# Altium footprint library IC_SMD_BGA.PCBLIB: 109 footprints (part 2 of 14)
Each footprint in its own frame and in the unit in brackets; x right, y up, seen from the top. Pads: shape width x height; smd on the part's side, far side on the other; paste and mask are expansions set on the pad; w line width, h text height; cw(c..) or ccw(c..) is an arc to the next point about the centre after c.
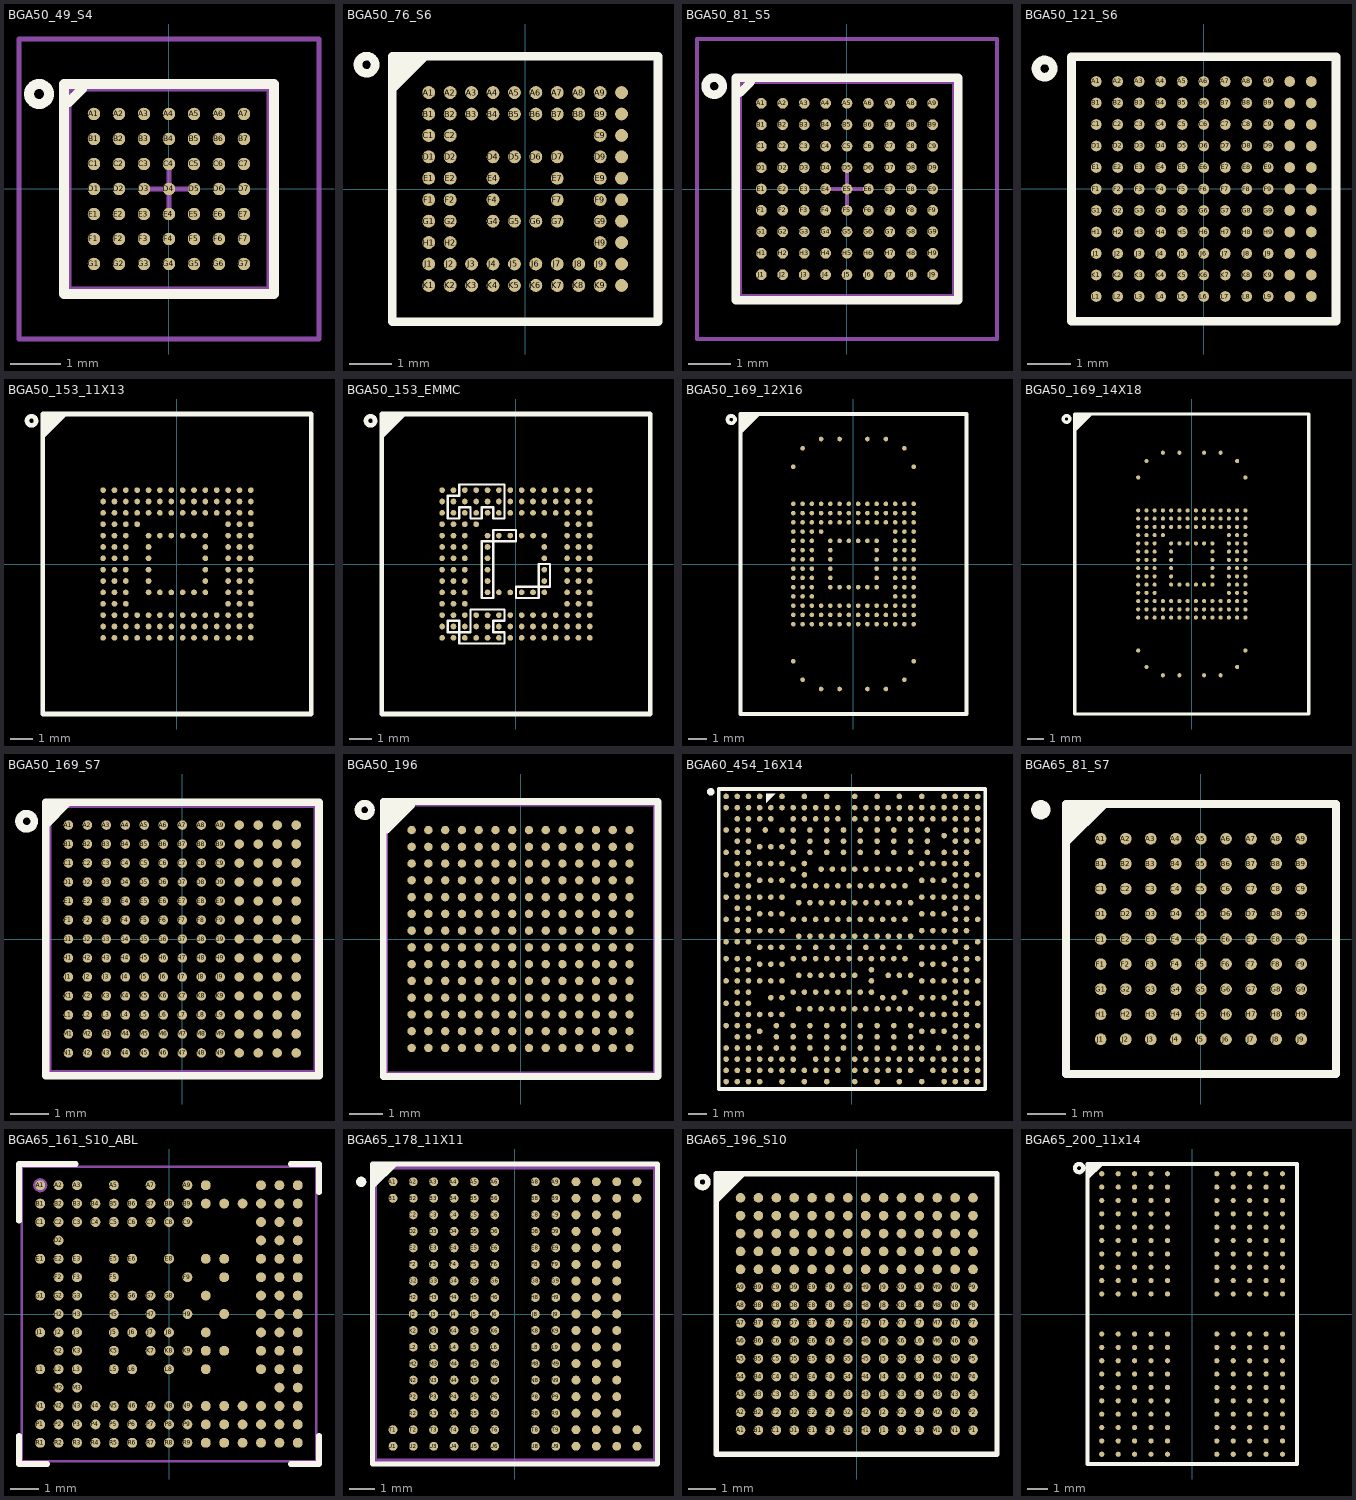
[diagram p1: the footprints below, top view; thin cyan lines are the x and y axes]

## BGA50_49_S4 [mm]
pads (49):
  round 0.25 smd mask+0.05: A1(-1.5,1.5) A2(-1,1.5) A3(-0.5,1.5) A4(0,1.5) A5(0.5,1.5) A6(1,1.5) A7(1.5,1.5) B1(-1.5,1) B2(-1,1) B3(-0.5,1) B4(0,1) B5(0.5,1) B6(1,1) B7(1.5,1) C1(-1.5,0.5) C2(-1,0.5) C3(-0.5,0.5) C4(0,0.5) C5(0.5,0.5) C6(1,0.5) C7(1.5,0.5) D1(-1.5,0) D2(-1,0) D3(-0.5,0) D4(0,0) D5(0.5,0) D6(1,0) D7(1.5,0) E1(-1.5,-0.5) E2(-1,-0.5) E3(-0.5,-0.5) E4(0,-0.5) E5(0.5,-0.5) E6(1,-0.5) E7(1.5,-0.5) F1(-1.5,-1) F2(-1,-1) F3(-0.5,-1) F4(0,-1) F5(0.5,-1) F6(1,-1) F7(1.5,-1) G1(-1.5,-1.5) G2(-1,-1.5) G3(-0.5,-1.5) G4(0,-1.5) G5(0.5,-1.5) G6(1,-1.5) G7(1.5,-1.5)
TopOverlay:
  circle w0.2: c-2.6,1.9 r0.2
  lines w0.2: -2,1.742 -1.742,2 ; -2.1,-2.1 -2.1,2.1 2.1,2.1 2.1,-2.1 -2.1,-2.1
Mechanical13:
  lines w0.1: -2,-2 -2,2 2,2 2,-2 -2,-2
Mechanical15:
  lines w0.1: -0.5,0 0.5,0 ; 0,-0.5 0,0.5 ; -3,-3 -3,3 3,3 3,-3 -3,-3

## BGA50_76_S6 [mm] "CSPBGA-76, BC-76-2, 6x6, 0.5mm ptich"
pads (76):
  round 0.3 smd paste+0 mask+0.05: A1(-2.25,2.25) A2(-1.75,2.25) A3(-1.25,2.25) A4(-0.75,2.25) A5(-0.25,2.25) A6(0.25,2.25) A7(0.75,2.25) A8(1.25,2.25) A9(1.75,2.25) A10(2.25,2.25) B1(-2.25,1.75) B2(-1.75,1.75) B3(-1.25,1.75) B4(-0.75,1.75) B5(-0.25,1.75) B6(0.25,1.75) B7(0.75,1.75) B8(1.25,1.75) B9(1.75,1.75) B10(2.25,1.75) C1(-2.25,1.25) C2(-1.75,1.25) C9(1.75,1.25) C10(2.25,1.25) D1(-2.25,0.75) D2(-1.75,0.75) D4(-0.75,0.75) D5(-0.25,0.75) D6(0.25,0.75) D7(0.75,0.75) D9(1.75,0.75) D10(2.25,0.75) E1(-2.25,0.25) E2(-1.75,0.25) E4(-0.75,0.25) E7(0.75,0.25) E9(1.75,0.25) E10(2.25,0.25) F1(-2.25,-0.25) F2(-1.75,-0.25) F4(-0.75,-0.25) F7(0.75,-0.25) F9(1.75,-0.25) F10(2.25,-0.25) G1(-2.25,-0.75) G2(-1.75,-0.75) G4(-0.75,-0.75) G5(-0.25,-0.75) G6(0.25,-0.75) G7(0.75,-0.75) G9(1.75,-0.75) G10(2.25,-0.75) H1(-2.25,-1.25) H2(-1.75,-1.25) H9(1.75,-1.25) H10(2.25,-1.25) J1(-2.25,-1.75) J2(-1.75,-1.75) J3(-1.25,-1.75) J4(-0.75,-1.75) J5(-0.25,-1.75) J6(0.25,-1.75) J7(0.75,-1.75) J8(1.25,-1.75) J9(1.75,-1.75) J10(2.25,-1.75) K1(-2.25,-2.25) K2(-1.75,-2.25) K3(-1.25,-2.25) K4(-0.75,-2.25) K5(-0.25,-2.25) K6(0.25,-2.25) K7(0.75,-2.25) K8(1.25,-2.25) K9(1.75,-2.25) K10(2.25,-2.25)
TopOverlay:
  circle w0.2: c-3.7,2.9 r0.2
  region: -3.1,3.1 -3.1,2.2 -2.2,3.1
  lines w0.2: -3.1,-3.1 -3.1,3.1 3.1,3.1 3.1,-2.8 3.1,-3 3.1,-3.1 -3.1,-3.1
3D body "BC_76_2_ADI.step": height 1.4, standoff 0, extent -3.048,-3.048 3.048,3.048

## BGA50_81_S5 [mm]
pads (81):
  round 0.25 smd mask+0.05: A1(-2,2) A2(-1.5,2) A3(-1,2) A4(-0.5,2) A5(0,2) A6(0.5,2) A7(1,2) A8(1.5,2) A9(2,2) B1(-2,1.5) B2(-1.5,1.5) B3(-1,1.5) B4(-0.5,1.5) B5(0,1.5) B6(0.5,1.5) B7(1,1.5) B8(1.5,1.5) B9(2,1.5) C1(-2,1) C2(-1.5,1) C3(-1,1) C4(-0.5,1) C5(0,1) C6(0.5,1) C7(1,1) C8(1.5,1) C9(2,1) D1(-2,0.5) D2(-1.5,0.5) D3(-1,0.5) D4(-0.5,0.5) D5(0,0.5) D6(0.5,0.5) D7(1,0.5) D8(1.5,0.5) D9(2,0.5) E1(-2,0) E2(-1.5,0) E3(-1,0) E4(-0.5,0) E5(0,0) E6(0.5,0) E7(1,0) E8(1.5,0) E9(2,0) F1(-2,-0.5) F2(-1.5,-0.5) F3(-1,-0.5) F4(-0.5,-0.5) F5(0,-0.5) F6(0.5,-0.5) F7(1,-0.5) F8(1.5,-0.5) F9(2,-0.5) G1(-2,-1) G2(-1.5,-1) G3(-1,-1) G4(-0.5,-1) G5(0,-1) G6(0.5,-1) G7(1,-1) G8(1.5,-1) G9(2,-1) H1(-2,-1.5) H2(-1.5,-1.5) H3(-1,-1.5) H4(-0.5,-1.5) H5(0,-1.5) H6(0.5,-1.5) H7(1,-1.5) H8(1.5,-1.5) H9(2,-1.5) J1(-2,-2) J2(-1.5,-2) J3(-1,-2) J4(-0.5,-2) J5(0,-2) J6(0.5,-2) J7(1,-2) J8(1.5,-2) J9(2,-2)
TopOverlay:
  circle w0.2: c-3.1,2.4 r0.2
  lines w0.2: -2.5,2.242 -2.242,2.5 ; -2.6,-2.6 -2.6,2.6 2.6,2.6 2.6,-2.6 -2.6,-2.6
Mechanical13:
  lines w0.1: -2.5,-2.5 -2.5,2.5 2.5,2.5 2.5,-2.5 -2.5,-2.5
Mechanical15:
  lines w0.1: -0.5,0 0.5,0 ; 0,-0.5 0,0.5 ; -3.5,-3.5 -3.5,3.5 3.5,3.5 3.5,-3.5 -3.5,-3.5

## BGA50_121_S6 [mm]
pads (121):
  round 0.25 smd mask+0.05: A1(-2.5,2.5) A2(-2,2.5) A3(-1.5,2.5) A4(-1,2.5) A5(-0.5,2.5) A6(0,2.5) A7(0.5,2.5) A8(1,2.5) A9(1.5,2.5) A10(2,2.5) A11(2.5,2.5) B1(-2.5,2) B2(-2,2) B3(-1.5,2) B4(-1,2) B5(-0.5,2) B6(0,2) B7(0.5,2) B8(1,2) B9(1.5,2) B10(2,2) B11(2.5,2) C1(-2.5,1.5) C2(-2,1.5) C3(-1.5,1.5) C4(-1,1.5) C5(-0.5,1.5) C6(0,1.5) C7(0.5,1.5) C8(1,1.5) C9(1.5,1.5) C10(2,1.5) C11(2.5,1.5) D1(-2.5,1) D2(-2,1) D3(-1.5,1) D4(-1,1) D5(-0.5,1) D6(0,1) D7(0.5,1) D8(1,1) D9(1.5,1) D10(2,1) D11(2.5,1) E1(-2.5,0.5) E2(-2,0.5) E3(-1.5,0.5) E4(-1,0.5) E5(-0.5,0.5) E6(0,0.5) E7(0.5,0.5) E8(1,0.5) E9(1.5,0.5) E10(2,0.5) E11(2.5,0.5) F1(-2.5,0) F2(-2,0) F3(-1.5,0) F4(-1,0) F5(-0.5,0) F6(0,0) F7(0.5,0) F8(1,0) F9(1.5,0) F10(2,0) F11(2.5,0) G1(-2.5,-0.5) G2(-2,-0.5) G3(-1.5,-0.5) G4(-1,-0.5) G5(-0.5,-0.5) G6(0,-0.5) G7(0.5,-0.5) G8(1,-0.5) G9(1.5,-0.5) G10(2,-0.5) G11(2.5,-0.5) H1(-2.5,-1) H2(-2,-1) H3(-1.5,-1) H4(-1,-1) H5(-0.5,-1) H6(0,-1) H7(0.5,-1) H8(1,-1) H9(1.5,-1) H10(2,-1) H11(2.5,-1) J1(-2.5,-1.5) J2(-2,-1.5) J3(-1.5,-1.5) J4(-1,-1.5) J5(-0.5,-1.5) J6(0,-1.5) J7(0.5,-1.5) J8(1,-1.5) J9(1.5,-1.5) J10(2,-1.5) J11(2.5,-1.5) K1(-2.5,-2) K2(-2,-2) K3(-1.5,-2) K4(-1,-2) K5(-0.5,-2) K6(0,-2) K7(0.5,-2) K8(1,-2) K9(1.5,-2) K10(2,-2) K11(2.5,-2) L1(-2.5,-2.5) L2(-2,-2.5) L3(-1.5,-2.5) L4(-1,-2.5) L5(-0.5,-2.5) L6(0,-2.5) L7(0.5,-2.5) L8(1,-2.5) L9(1.5,-2.5) L10(2,-2.5) L11(2.5,-2.5)
TopOverlay:
  circle w0.2: c-3.7,2.8 r0.2
  lines w0.2: -3.075,-3.075 -3.075,3.075 3.075,3.075 3.075,-3.075 -3.075,-3.075

## BGA50_153_11X13 [mm] "BGA 153ball, pitch:0.5mm, 11.5x13mm"
pads (153):
  round 0.25 smd mask+0.05: A1(-3.25,3.25) A2(-2.75,3.25) A3(-2.25,3.25) A4(-1.75,3.25) A5(-1.25,3.25) A6(-0.75,3.25) A7(-0.25,3.25) A8(0.25,3.25) A9(0.75,3.25) A10(1.25,3.25) A11(1.75,3.25) A12(2.25,3.25) A13(2.75,3.25) A14(3.25,3.25) B1(-3.25,2.75) B2(-2.75,2.75) B3(-2.25,2.75) B4(-1.75,2.75) B5(-1.25,2.75) B6(-0.75,2.75) B7(-0.25,2.75) B8(0.25,2.75) B9(0.75,2.75) B10(1.25,2.75) B11(1.75,2.75) B12(2.25,2.75) B13(2.75,2.75) B14(3.25,2.75) C1(-3.25,2.25) C2(-2.75,2.25) C3(-2.25,2.25) C4(-1.75,2.25) C5(-1.25,2.25) C6(-0.75,2.25) C7(-0.25,2.25) C8(0.25,2.25) C9(0.75,2.25) C10(1.25,2.25) C11(1.75,2.25) C12(2.25,2.25) C13(2.75,2.25) C14(3.25,2.25) D1(-3.25,1.75) D2(-2.75,1.75) D3(-2.25,1.75) D4(-1.75,1.75) D12(2.25,1.75) D13(2.75,1.75) D14(3.25,1.75) E1(-3.25,1.25) E2(-2.75,1.25) E3(-2.25,1.25) E5(-1.25,1.25) E6(-0.75,1.25) E7(-0.25,1.25) E8(0.25,1.25) E9(0.75,1.25) E10(1.25,1.25) E12(2.25,1.25) E13(2.75,1.25) E14(3.25,1.25) F1(-3.25,0.75) F2(-2.75,0.75) F3(-2.25,0.75) F5(-1.25,0.75) F10(1.25,0.75) F12(2.25,0.75) F13(2.75,0.75) F14(3.25,0.75) G1(-3.25,0.25) G2(-2.75,0.25) G3(-2.25,0.25) G5(-1.25,0.25) G10(1.25,0.25) G12(2.25,0.25) G13(2.75,0.25) G14(3.25,0.25) H1(-3.25,-0.25) H2(-2.75,-0.25) H3(-2.25,-0.25) H5(-1.25,-0.25) H10(1.25,-0.25) H12(2.25,-0.25) H13(2.75,-0.25) H14(3.25,-0.25) J1(-3.25,-0.75) J2(-2.75,-0.75) J3(-2.25,-0.75) J5(-1.25,-0.75) J10(1.25,-0.75) J12(2.25,-0.75) J13(2.75,-0.75) J14(3.25,-0.75) K1(-3.25,-1.25) K2(-2.75,-1.25) K3(-2.25,-1.25) K5(-1.25,-1.25) K6(-0.75,-1.25) K7(-0.25,-1.25) K8(0.25,-1.25) K9(0.75,-1.25) K10(1.25,-1.25) K12(2.25,-1.25) K13(2.75,-1.25) K14(3.25,-1.25) L1(-3.25,-1.75) L2(-2.75,-1.75) L3(-2.25,-1.75) L12(2.25,-1.75) L13(2.75,-1.75) L14(3.25,-1.75) M1(-3.25,-2.25) M2(-2.75,-2.25) M3(-2.25,-2.25) M4(-1.75,-2.25) M5(-1.25,-2.25) M6(-0.75,-2.25) M7(-0.25,-2.25) M8(0.25,-2.25) M9(0.75,-2.25) M10(1.25,-2.25) M11(1.75,-2.25) M12(2.25,-2.25) M13(2.75,-2.25) M14(3.25,-2.25) N1(-3.25,-2.75) N2(-2.75,-2.75) N3(-2.25,-2.75) N4(-1.75,-2.75) N5(-1.25,-2.75) N6(-0.75,-2.75) N7(-0.25,-2.75) N8(0.25,-2.75) N9(0.75,-2.75) N10(1.25,-2.75) N11(1.75,-2.75) N12(2.25,-2.75) N13(2.75,-2.75) N14(3.25,-2.75) P1(-3.25,-3.25) P2(-2.75,-3.25) P3(-2.25,-3.25) P4(-1.75,-3.25) P5(-1.25,-3.25) P6(-0.75,-3.25) P7(-0.25,-3.25) P8(0.25,-3.25) P9(0.75,-3.25) P10(1.25,-3.25) P11(1.75,-3.25) P12(2.25,-3.25) P13(2.75,-3.25) P14(3.25,-3.25)
TopOverlay:
  circle w0.2: c-6.4,6.3 r0.2
  region: -5.9,5.5 -4.8,6.6 -5.9,6.6
  lines w0.2: -5.9,-6.6 -5.9,6.6 5.9,6.6 5.9,-6.6 -5.9,-6.6

## BGA50_153_EMMC [mm] "BGA 153ball, pitch:0.5mm, 11.5x13mm"
pads (153):
  round 0.25 smd mask+0.05: A1(-3.25,3.25) A2(-2.75,3.25) A3(-2.25,3.25) A4(-1.75,3.25) A5(-1.25,3.25) A6(-0.75,3.25) A7(-0.25,3.25) A8(0.25,3.25) B1(-3.25,2.75) B2(-2.75,2.75) B3(-2.25,2.75) B4(-1.75,2.75) B5(-1.25,2.75) B6(-0.75,2.75) B7(-0.25,2.75) C1(-3.25,2.25) C2(-2.75,2.25) C3(-2.25,2.25) C4(-1.75,2.25) C5(-1.25,2.25) C6(-0.75,2.25) D1(-3.25,1.75) D2(-2.75,1.75) D3(-2.25,1.75) D4(-1.75,1.75) E1(-3.25,1.25) E2(-2.75,1.25) E3(-2.25,1.25) E6(-0.75,1.25) E7(-0.25,1.25) F1(-3.25,0.75) F2(-2.75,0.75) F5(-1.25,0.75) G5(-1.25,0.25) H5(-1.25,-0.25) H10(1.25,-0.25) J5(-1.25,-0.75) J10(1.25,-0.75) K5(-1.25,-1.25) K8(0.25,-1.25) K9(0.75,-1.25) M4(-1.75,-2.25) M5(-1.25,-2.25) M6(-0.75,-2.25) N2(-2.75,-2.75) N4(-1.75,-2.75) N5(-1.25,-2.75) P2(-2.75,-3.25) P3(-2.25,-3.25) P4(-1.75,-3.25) P5(-1.25,-3.25) P6(-0.75,-3.25) ""(-3.25,-3.25) ""(-3.25,-2.75) ""(-3.25,-2.25) ""(-3.25,-1.75) ""(-3.25,-1.25) ""(-3.25,-0.75) ""(-3.25,-0.25) ""(-3.25,0.25) ""(-2.75,-2.25) ""(-2.75,-1.75) ""(-2.75,-1.25) ""(-2.75,-0.75) ""(-2.75,-0.25) ""(-2.75,0.25) ""(-2.25,-2.75) ""(-2.25,-2.25) ""(-2.25,-1.75) ""(-2.25,-1.25) ""(-2.25,-0.75) ""(-2.25,-0.25) ""(-2.25,0.25) ""(-2.25,0.75) ""(-1.25,1.25) ""(-0.75,-2.75) ""(-0.75,-1.25) ""(-0.25,-3.25) ""(-0.25,-2.75) ""(-0.25,-2.25) ""(-0.25,-1.25) ""(-0.25,2.25) ""(0.25,-3.25) ""(0.25,-2.75) ""(0.25,-2.25) ""(0.25,1.25) ""(0.25,2.25) ""(0.25,2.75) ""(0.75,-3.25) ""(0.75,-2.75) ""(0.75,-2.25) ""(0.75,1.25) ""(0.75,2.25) ""(0.75,2.75) ""(0.75,3.25) ""(1.25,-3.25) ""(1.25,-2.75) ""(1.25,-2.25) ""(1.25,-1.25) ""(1.25,0.25) ""(1.25,0.75) ""(1.25,1.25) ""(1.25,2.25) ""(1.25,2.75) ""(1.25,3.25) ""(1.75,-3.25) ""(1.75,-2.75) ""(1.75,-2.25) ""(1.75,2.25) ""(1.75,2.75) ""(1.75,3.25) ""(2.25,-3.25) ""(2.25,-2.75) ""(2.25,-2.25) ""(2.25,-1.75) ""(2.25,-1.25) ""(2.25,-0.75) ""(2.25,-0.25) ""(2.25,0.25) ""(2.25,0.75) ""(2.25,1.25) ""(2.25,1.75) ""(2.25,2.25) ""(2.25,2.75) ""(2.25,3.25) ""(2.75,-3.25) ""(2.75,-2.75) ""(2.75,-2.25) ""(2.75,-1.75) ""(2.75,-1.25) ""(2.75,-0.75) ""(2.75,-0.25) ""(2.75,0.25) ""(2.75,0.75) ""(2.75,1.25) ""(2.75,1.75) ""(2.75,2.25) ""(2.75,2.75) ""(2.75,3.25) ""(3.25,-3.25) ""(3.25,-2.75) ""(3.25,-2.25) ""(3.25,-1.75) ""(3.25,-1.25) ""(3.25,-0.75) ""(3.25,-0.25) ""(3.25,0.25) ""(3.25,0.75) ""(3.25,1.25) ""(3.25,1.75) ""(3.25,2.25) ""(3.25,2.75) ""(3.25,3.25)
TopOverlay:
  circle w0.2: c-6.4,6.3 r0.2
  region: -5.9,5.5 -4.8,6.6 -5.9,6.6
  lines w0.1: -2.5,-3 -2,-3 -2,-2 -0.5,-2 -0.5,-2.5 -1,-2.5 -1,-3 -0.5,-3 -0.5,-3.5 -2.5,-3.5 -2.5,-3 ; -2.5,-3 -2.5,-2.5 -3,-2.5 -3,-3 -2.5,-3 ; -1,1 0,1 0,1.5 -1,1.5 -1,1 ; -1,1 -1.5,1 -1.5,-1.5 -1,-1.5 -1,1 ; 1,-1 1.5,-1 1.5,0 1,0 1,-1 ; 1,-1 0,-1 0,-1.5 1,-1.5 1,-1 ; -3,2 -3,3 -2.5,3 -2.5,3.5 -0.5,3.5 -0.5,2 -1,2 -1,2.5 -1.5,2.5 -1.5,2 -2,2 -2,2.5 -2.5,2.5 -2.5,2 -3,2
  lines w0.2: -5.9,-6.6 -5.9,6.6 5.9,6.6 5.9,-6.6 -5.9,-6.6
3D body: height 0.8, standoff 0, extent -5.8,-6.5 5.8,6.5

## BGA50_169_12X16 [mm] "BGA 153ball, pitch:0.5mm, 12x16mm"
pads (169):
  round 0.25 smd mask+0.05: A4(-1.75,6.75) A6(-0.75,6.75) A9(0.75,6.75) A11(1.75,6.75) AA1(-3.25,-3.25) AA2(-2.75,-3.25) AA3(-2.25,-3.25) AA4(-1.75,-3.25) AA5(-1.25,-3.25) AA6(-0.75,-3.25) AA7(-0.25,-3.25) AA8(0.25,-3.25) AA9(0.75,-3.25) AA10(1.25,-3.25) AA11(1.75,-3.25) AA12(2.25,-3.25) AA13(2.75,-3.25) AA14(3.25,-3.25) AE1(-3.25,-5.25) AE14(3.25,-5.25) AG2(-2.75,-6.25) AG13(2.75,-6.25) AH4(-1.75,-6.75) AH6(-0.75,-6.75) AH9(0.75,-6.75) AH11(1.75,-6.75) B2(-2.75,6.25) B13(2.75,6.25) D1(-3.25,5.25) D14(3.25,5.25) H1(-3.25,3.25) H2(-2.75,3.25) H3(-2.25,3.25) H4(-1.75,3.25) H5(-1.25,3.25) H6(-0.75,3.25) H7(-0.25,3.25) H8(0.25,3.25) H9(0.75,3.25) H10(1.25,3.25) H11(1.75,3.25) H12(2.25,3.25) H13(2.75,3.25) H14(3.25,3.25) J1(-3.25,2.75) J2(-2.75,2.75) J3(-2.25,2.75) J4(-1.75,2.75) J5(-1.25,2.75) J6(-0.75,2.75) J7(-0.25,2.75) J8(0.25,2.75) J9(0.75,2.75) J10(1.25,2.75) J11(1.75,2.75) J12(2.25,2.75) J13(2.75,2.75) J14(3.25,2.75) K1(-3.25,2.25) K2(-2.75,2.25) K3(-2.25,2.25) K4(-1.75,2.25) K5(-1.25,2.25) K6(-0.75,2.25) K7(-0.25,2.25) K8(0.25,2.25) K9(0.75,2.25) K10(1.25,2.25) K11(1.75,2.25) K12(2.25,2.25) K13(2.75,2.25) K14(3.25,2.25) L1(-3.25,1.75) L2(-2.75,1.75) L3(-2.25,1.75) L4(-1.75,1.75) L12(2.25,1.75) L13(2.75,1.75) L14(3.25,1.75) M1(-3.25,1.25) M2(-2.75,1.25) M3(-2.25,1.25) M5(-1.25,1.25) M6(-0.75,1.25) M7(-0.25,1.25) M8(0.25,1.25) M9(0.75,1.25) M10(1.25,1.25) M12(2.25,1.25) M13(2.75,1.25) M14(3.25,1.25) N1(-3.25,0.75) N2(-2.75,0.75) N3(-2.25,0.75) N5(-1.25,0.75) N10(1.25,0.75) N12(2.25,0.75) N13(2.75,0.75) N14(3.25,0.75) P1(-3.25,0.25) P2(-2.75,0.25) P3(-2.25,0.25) P5(-1.25,0.25) P10(1.25,0.25) P12(2.25,0.25) P13(2.75,0.25) P14(3.25,0.25) R1(-3.25,-0.25) R2(-2.75,-0.25) R3(-2.25,-0.25) R5(-1.25,-0.25) R10(1.25,-0.25) R12(2.25,-0.25) R13(2.75,-0.25) R14(3.25,-0.25) T1(-3.25,-0.75) T2(-2.75,-0.75) T3(-2.25,-0.75) T5(-1.25,-0.75) T10(1.25,-0.75) T12(2.25,-0.75) T13(2.75,-0.75) T14(3.25,-0.75) U1(-3.25,-1.25) U2(-2.75,-1.25) U3(-2.25,-1.25) U5(-1.25,-1.25) U6(-0.75,-1.25) U7(-0.25,-1.25) U8(0.25,-1.25) U9(0.75,-1.25) U10(1.25,-1.25) U12(2.25,-1.25) U13(2.75,-1.25) U14(3.25,-1.25) V1(-3.25,-1.75) V2(-2.75,-1.75) V3(-2.25,-1.75) V12(2.25,-1.75) V13(2.75,-1.75) V14(3.25,-1.75) W1(-3.25,-2.25) W2(-2.75,-2.25) W3(-2.25,-2.25) W4(-1.75,-2.25) W5(-1.25,-2.25) W6(-0.75,-2.25) W7(-0.25,-2.25) W8(0.25,-2.25) W9(0.75,-2.25) W10(1.25,-2.25) W11(1.75,-2.25) W12(2.25,-2.25) W13(2.75,-2.25) W14(3.25,-2.25) Y1(-3.25,-2.75) Y2(-2.75,-2.75) Y3(-2.25,-2.75) Y4(-1.75,-2.75) Y5(-1.25,-2.75) Y6(-0.75,-2.75) Y7(-0.25,-2.75) Y8(0.25,-2.75) Y9(0.75,-2.75) Y10(1.25,-2.75) Y11(1.75,-2.75) Y12(2.25,-2.75) Y13(2.75,-2.75) Y14(3.25,-2.75)
TopOverlay:
  circle w0.2: c-6.6,7.8 r0.2
  region: -6.1,7 -5,8.1 -6.1,8.1
  lines w0.2: -6.1,-8.1 6.1,-8.1 6.1,8.1 -6.1,8.1 -6.1,-8.1
3D body: height 0.8, standoff 0, extent -6,-8 6,8

## BGA50_169_14X18 [mm] "BGA 153ball, pitch:0.5mm, 14x18mm"
pads (169):
  round 0.25 smd mask+0.05: A4(-1.75,6.75) A6(-0.75,6.75) A9(0.75,6.75) A11(1.75,6.75) AA1(-3.25,-3.25) AA2(-2.75,-3.25) AA3(-2.25,-3.25) AA4(-1.75,-3.25) AA5(-1.25,-3.25) AA6(-0.75,-3.25) AA7(-0.25,-3.25) AA8(0.25,-3.25) AA9(0.75,-3.25) AA10(1.25,-3.25) AA11(1.75,-3.25) AA12(2.25,-3.25) AA13(2.75,-3.25) AA14(3.25,-3.25) AE1(-3.25,-5.25) AE14(3.25,-5.25) AG2(-2.75,-6.25) AG13(2.75,-6.25) AH4(-1.75,-6.75) AH6(-0.75,-6.75) AH9(0.75,-6.75) AH11(1.75,-6.75) B2(-2.75,6.25) B13(2.75,6.25) D1(-3.25,5.25) D14(3.25,5.25) H1(-3.25,3.25) H2(-2.75,3.25) H3(-2.25,3.25) H4(-1.75,3.25) H5(-1.25,3.25) H6(-0.75,3.25) H7(-0.25,3.25) H8(0.25,3.25) H9(0.75,3.25) H10(1.25,3.25) H11(1.75,3.25) H12(2.25,3.25) H13(2.75,3.25) H14(3.25,3.25) J1(-3.25,2.75) J2(-2.75,2.75) J3(-2.25,2.75) J4(-1.75,2.75) J5(-1.25,2.75) J6(-0.75,2.75) J7(-0.25,2.75) J8(0.25,2.75) J9(0.75,2.75) J10(1.25,2.75) J11(1.75,2.75) J12(2.25,2.75) J13(2.75,2.75) J14(3.25,2.75) K1(-3.25,2.25) K2(-2.75,2.25) K3(-2.25,2.25) K4(-1.75,2.25) K5(-1.25,2.25) K6(-0.75,2.25) K7(-0.25,2.25) K8(0.25,2.25) K9(0.75,2.25) K10(1.25,2.25) K11(1.75,2.25) K12(2.25,2.25) K13(2.75,2.25) K14(3.25,2.25) L1(-3.25,1.75) L2(-2.75,1.75) L3(-2.25,1.75) L4(-1.75,1.75) L12(2.25,1.75) L13(2.75,1.75) L14(3.25,1.75) M1(-3.25,1.25) M2(-2.75,1.25) M3(-2.25,1.25) M5(-1.25,1.25) M6(-0.75,1.25) M7(-0.25,1.25) M8(0.25,1.25) M9(0.75,1.25) M10(1.25,1.25) M12(2.25,1.25) M13(2.75,1.25) M14(3.25,1.25) N1(-3.25,0.75) N2(-2.75,0.75) N3(-2.25,0.75) N5(-1.25,0.75) N10(1.25,0.75) N12(2.25,0.75) N13(2.75,0.75) N14(3.25,0.75) P1(-3.25,0.25) P2(-2.75,0.25) P3(-2.25,0.25) P5(-1.25,0.25) P10(1.25,0.25) P12(2.25,0.25) P13(2.75,0.25) P14(3.25,0.25) R1(-3.25,-0.25) R2(-2.75,-0.25) R3(-2.25,-0.25) R5(-1.25,-0.25) R10(1.25,-0.25) R12(2.25,-0.25) R13(2.75,-0.25) R14(3.25,-0.25) T1(-3.25,-0.75) T2(-2.75,-0.75) T3(-2.25,-0.75) T5(-1.25,-0.75) T10(1.25,-0.75) T12(2.25,-0.75) T13(2.75,-0.75) T14(3.25,-0.75) U1(-3.25,-1.25) U2(-2.75,-1.25) U3(-2.25,-1.25) U5(-1.25,-1.25) U6(-0.75,-1.25) U7(-0.25,-1.25) U8(0.25,-1.25) U9(0.75,-1.25) U10(1.25,-1.25) U12(2.25,-1.25) U13(2.75,-1.25) U14(3.25,-1.25) V1(-3.25,-1.75) V2(-2.75,-1.75) V3(-2.25,-1.75) V12(2.25,-1.75) V13(2.75,-1.75) V14(3.25,-1.75) W1(-3.25,-2.25) W2(-2.75,-2.25) W3(-2.25,-2.25) W4(-1.75,-2.25) W5(-1.25,-2.25) W6(-0.75,-2.25) W7(-0.25,-2.25) W8(0.25,-2.25) W9(0.75,-2.25) W10(1.25,-2.25) W11(1.75,-2.25) W12(2.25,-2.25) W13(2.75,-2.25) W14(3.25,-2.25) Y1(-3.25,-2.75) Y2(-2.75,-2.75) Y3(-2.25,-2.75) Y4(-1.75,-2.75) Y5(-1.25,-2.75) Y6(-0.75,-2.75) Y7(-0.25,-2.75) Y8(0.25,-2.75) Y9(0.75,-2.75) Y10(1.25,-2.75) Y11(1.75,-2.75) Y12(2.25,-2.75) Y13(2.75,-2.75) Y14(3.25,-2.75)
TopOverlay:
  circle w0.2: c-7.6,8.8 r0.2
  region: -7.1,8 -6,9.1 -7.1,9.1
  lines w0.2: -7.1,-9.1 -7.1,9.1 7.1,9.1 7.1,-9.1 -7.1,-9.1
3D body: height 0.8, standoff 0, extent -7,-9 7,9

## BGA50_169_S7 [mm] "BGA; 169 Balls; Body 7 x 7 mm; Pitch 0.5mm"
height 1
pads (169):
  round 0.25 smd mask+0.05: A1(-3,3) A2(-2.5,3) A3(-2,3) A4(-1.5,3) A5(-1,3) A6(-0.5,3) A7(0,3) A8(0.5,3) A9(1,3) A10(1.5,3) A11(2,3) A12(2.5,3) A13(3,3) B1(-3,2.5) B2(-2.5,2.5) B3(-2,2.5) B4(-1.5,2.5) B5(-1,2.5) B6(-0.5,2.5) B7(0,2.5) B8(0.5,2.5) B9(1,2.5) B10(1.5,2.5) B11(2,2.5) B12(2.5,2.5) B13(3,2.5) C1(-3,2) C2(-2.5,2) C3(-2,2) C4(-1.5,2) C5(-1,2) C6(-0.5,2) C7(0,2) C8(0.5,2) C9(1,2) C10(1.5,2) C11(2,2) C12(2.5,2) C13(3,2) D1(-3,1.5) D2(-2.5,1.5) D3(-2,1.5) D4(-1.5,1.5) D5(-1,1.5) D6(-0.5,1.5) D7(0,1.5) D8(0.5,1.5) D9(1,1.5) D10(1.5,1.5) D11(2,1.5) D12(2.5,1.5) D13(3,1.5) E1(-3,1) E2(-2.5,1) E3(-2,1) E4(-1.5,1) E5(-1,1) E6(-0.5,1) E7(0,1) E8(0.5,1) E9(1,1) E10(1.5,1) E11(2,1) E12(2.5,1) E13(3,1) F1(-3,0.5) F2(-2.5,0.5) F3(-2,0.5) F4(-1.5,0.5) F5(-1,0.5) F6(-0.5,0.5) F7(0,0.5) F8(0.5,0.5) F9(1,0.5) F10(1.5,0.5) F11(2,0.5) F12(2.5,0.5) F13(3,0.5) G1(-3,0) G2(-2.5,0) G3(-2,0) G4(-1.5,0) G5(-1,0) G6(-0.5,0) G7(0,0) G8(0.5,0) G9(1,0) G10(1.5,0) G11(2,0) G12(2.5,0) G13(3,0) H1(-3,-0.5) H2(-2.5,-0.5) H3(-2,-0.5) H4(-1.5,-0.5) H5(-1,-0.5) H6(-0.5,-0.5) H7(0,-0.5) H8(0.5,-0.5) H9(1,-0.5) H10(1.5,-0.5) H11(2,-0.5) H12(2.5,-0.5) H13(3,-0.5) J1(-3,-1) J2(-2.5,-1) J3(-2,-1) J4(-1.5,-1) J5(-1,-1) J6(-0.5,-1) J7(0,-1) J8(0.5,-1) J9(1,-1) J10(1.5,-1) J11(2,-1) J12(2.5,-1) J13(3,-1) K1(-3,-1.5) K2(-2.5,-1.5) K3(-2,-1.5) K4(-1.5,-1.5) K5(-1,-1.5) K6(-0.5,-1.5) K7(0,-1.5) K8(0.5,-1.5) K9(1,-1.5) K10(1.5,-1.5) K11(2,-1.5) K12(2.5,-1.5) K13(3,-1.5) L1(-3,-2) L2(-2.5,-2) L3(-2,-2) L4(-1.5,-2) L5(-1,-2) L6(-0.5,-2) L7(0,-2) L8(0.5,-2) L9(1,-2) L10(1.5,-2) L11(2,-2) L12(2.5,-2) L13(3,-2) M1(-3,-2.5) M2(-2.5,-2.5) M3(-2,-2.5) M4(-1.5,-2.5) M5(-1,-2.5) M6(-0.5,-2.5) M7(0,-2.5) M8(0.5,-2.5) M9(1,-2.5) M10(1.5,-2.5) M11(2,-2.5) M12(2.5,-2.5) M13(3,-2.5) N1(-3,-3) N2(-2.5,-3) N3(-2,-3) N4(-1.5,-3) N5(-1,-3) N6(-0.5,-3) N7(0,-3) N8(0.5,-3) N9(1,-3) N10(1.5,-3) N11(2,-3) N12(2.5,-3) N13(3,-3)
TopOverlay:
  circle w0.2: c-4.1,3.1 r0.2
  region: -3,3.6 -3.6,3 -3.6,3.6
  lines w0.2: -3.6,3 -3,3.6 ; -3.6,-3.6 -3.6,3.6 3.6,3.6 3.6,-3.6 -3.6,-3.6
Mechanical13:
  lines w0.1: -3.5,-3.5 -3.5,3.5 3.5,3.5 3.5,-3.5 -3.5,-3.5
3D body: height 1, standoff 0.15, extent -3.5,-3.5 3.5,3.5

## BGA50_196 [mm] "BGA, CPGA196, 8x8mm, Pitch 0.50mm"
height 1
pads (196):
  round 0.25 smd mask+0.05: A1(-3.25,3.25) A2(-2.75,3.25) A3(-2.25,3.25) A4(-1.75,3.25) A5(-1.25,3.25) A6(-0.75,3.25) A7(-0.25,3.25) A8(0.25,3.25) A9(0.75,3.25) A10(1.25,3.25) A11(1.75,3.25) A12(2.25,3.25) A13(2.75,3.25) A14(3.25,3.25) B1(-3.25,2.75) B2(-2.75,2.75) B3(-2.25,2.75) B4(-1.75,2.75) B5(-1.25,2.75) B6(-0.75,2.75) B7(-0.25,2.75) B8(0.25,2.75) B9(0.75,2.75) B10(1.25,2.75) B11(1.75,2.75) B12(2.25,2.75) B13(2.75,2.75) B14(3.25,2.75) C1(-3.25,2.25) C2(-2.75,2.25) C3(-2.25,2.25) C4(-1.75,2.25) C5(-1.25,2.25) C6(-0.75,2.25) C7(-0.25,2.25) C8(0.25,2.25) C9(0.75,2.25) C10(1.25,2.25) C11(1.75,2.25) C12(2.25,2.25) C13(2.75,2.25) C14(3.25,2.25) D1(-3.25,1.75) D2(-2.75,1.75) D3(-2.25,1.75) D4(-1.75,1.75) D5(-1.25,1.75) D6(-0.75,1.75) D7(-0.25,1.75) D8(0.25,1.75) D9(0.75,1.75) D10(1.25,1.75) D11(1.75,1.75) D12(2.25,1.75) D13(2.75,1.75) D14(3.25,1.75) E1(-3.25,1.25) E2(-2.75,1.25) E3(-2.25,1.25) E4(-1.75,1.25) E5(-1.25,1.25) E6(-0.75,1.25) E7(-0.25,1.25) E8(0.25,1.25) E9(0.75,1.25) E10(1.25,1.25) E11(1.75,1.25) E12(2.25,1.25) E13(2.75,1.25) E14(3.25,1.25) F1(-3.25,0.75) F2(-2.75,0.75) F3(-2.25,0.75) F4(-1.75,0.75) F5(-1.25,0.75) F6(-0.75,0.75) F7(-0.25,0.75) F8(0.25,0.75) F9(0.75,0.75) F10(1.25,0.75) F11(1.75,0.75) F12(2.25,0.75) F13(2.75,0.75) F14(3.25,0.75) G1(-3.25,0.25) G2(-2.75,0.25) G3(-2.25,0.25) G4(-1.75,0.25) G5(-1.25,0.25) G6(-0.75,0.25) G7(-0.25,0.25) G8(0.25,0.25) G9(0.75,0.25) G10(1.25,0.25) G11(1.75,0.25) G12(2.25,0.25) G13(2.75,0.25) G14(3.25,0.25) H1(-3.25,-0.25) H2(-2.75,-0.25) H3(-2.25,-0.25) H4(-1.75,-0.25) H5(-1.25,-0.25) H6(-0.75,-0.25) H7(-0.25,-0.25) H8(0.25,-0.25) H9(0.75,-0.25) H10(1.25,-0.25) H11(1.75,-0.25) H12(2.25,-0.25) H13(2.75,-0.25) H14(3.25,-0.25) J1(-3.25,-0.75) J2(-2.75,-0.75) J3(-2.25,-0.75) J4(-1.75,-0.75) J5(-1.25,-0.75) J6(-0.75,-0.75) J7(-0.25,-0.75) J8(0.25,-0.75) J9(0.75,-0.75) J10(1.25,-0.75) J11(1.75,-0.75) J12(2.25,-0.75) J13(2.75,-0.75) J14(3.25,-0.75) K1(-3.25,-1.25) K2(-2.75,-1.25) K3(-2.25,-1.25) K4(-1.75,-1.25) K5(-1.25,-1.25) K6(-0.75,-1.25) K7(-0.25,-1.25) K8(0.25,-1.25) K9(0.75,-1.25) K10(1.25,-1.25) K11(1.75,-1.25) K12(2.25,-1.25) K13(2.75,-1.25) K14(3.25,-1.25) L1(-3.25,-1.75) L2(-2.75,-1.75) L3(-2.25,-1.75) L4(-1.75,-1.75) L5(-1.25,-1.75) L6(-0.75,-1.75) L7(-0.25,-1.75) L8(0.25,-1.75) L9(0.75,-1.75) L10(1.25,-1.75) L11(1.75,-1.75) L12(2.25,-1.75) L13(2.75,-1.75) L14(3.25,-1.75) M1(-3.25,-2.25) M2(-2.75,-2.25) M3(-2.25,-2.25) M4(-1.75,-2.25) M5(-1.25,-2.25) M6(-0.75,-2.25) M7(-0.25,-2.25) M8(0.25,-2.25) M9(0.75,-2.25) M10(1.25,-2.25) M11(1.75,-2.25) M12(2.25,-2.25) M13(2.75,-2.25) M14(3.25,-2.25) N1(-3.25,-2.75) N2(-2.75,-2.75) N3(-2.25,-2.75) N4(-1.75,-2.75) N5(-1.25,-2.75) N6(-0.75,-2.75) N7(-0.25,-2.75) N8(0.25,-2.75) N9(0.75,-2.75) N10(1.25,-2.75) N11(1.75,-2.75) N12(2.25,-2.75) N13(2.75,-2.75) N14(3.25,-2.75) P1(-3.25,-3.25) P2(-2.75,-3.25) P3(-2.25,-3.25) P4(-1.75,-3.25) P5(-1.25,-3.25) P6(-0.75,-3.25) P7(-0.25,-3.25) P8(0.25,-3.25) P9(0.75,-3.25) P10(1.25,-3.25) P11(1.75,-3.25) P12(2.25,-3.25) P13(2.75,-3.25) P14(3.25,-3.25)
TopOverlay:
  circle w0.2: c-4.65,3.85 r0.2
  region: -3.242,4 -4,3.242 -4,4
  lines w0.2: -4,3.242 -3.242,4 ; -4.1,-4.1 4.1,-4.1 4.1,4.1 -4.1,4.1 -4.1,-4.1
Mechanical13:
  lines w0.1: -4,-4 4,-4 4,4 -4,4 -4,-4
3D body "BGA50_196.step": height 1, standoff 0, extent -4,-4 4,4

## BGA60_454_16X14 [mm] "FCBGA, 52x46 ball matrix, 14.3x16.1mm, 0.6mm pitch staggered"
height 1.1
pads (454):
  round 0.3 smd mask+0.05: A1(-6.75,7.65) A3(-6.15,7.65) A5(-5.55,7.65) A7(-4.95,7.65) A11(-3.75,7.65) A15(-2.55,7.65) A19(-1.35,7.65) A24(0.15,7.65) A28(1.35,7.65) A32(2.55,7.65) A36(3.75,7.65) A40(4.95,7.65) A42(5.55,7.65) A44(6.15,7.65) A46(6.75,7.65) AA3(-6.15,1.65) AA5(-5.55,1.65) AA42(5.55,1.65) AA44(6.15,1.65) AB7(-4.95,1.35) AB9(-4.35,1.35) AB11(-3.75,1.35) AB36(3.75,1.35) AB38(4.35,1.35) AB40(4.95,1.35) AC1(-6.75,1.05) AC3(-6.15,1.05) AC5(-5.55,1.05) AC13(-3.15,1.05) AC15(-2.55,1.05) AC17(-1.95,1.05) AC19(-1.35,1.05) AC21(-0.75,1.05) AC23(-0.15,1.05) AC25(0.45,1.05) AC27(1.05,1.05) AC29(1.65,1.05) AC31(2.25,1.05) AC33(2.85,1.05) AC42(5.55,1.05) AC44(6.15,1.05) AC46(6.75,1.05) AE3(-6.15,0.45) AE5(-5.55,0.45) AE7(-4.95,0.45) AE9(-4.35,0.45) AE11(-3.75,0.45) AE36(3.75,0.45) AE38(4.35,0.45) AE40(4.95,0.45) AE42(5.55,0.45) AE44(6.15,0.45) AF14(-2.85,0.15) AF16(-2.25,0.15) AF18(-1.65,0.15) AF20(-1.05,0.15) AF22(-0.45,0.15) AF24(0.15,0.15) AF26(0.75,0.15) AF28(1.35,0.15) AF30(1.95,0.15) AF32(2.55,0.15) AF34(3.15,0.15) AG1(-6.75,-0.15) AG3(-6.15,-0.15) AG5(-5.55,-0.15) AG42(5.55,-0.15) AG46(6.75,-0.15) AH7(-4.95,-0.45) AH9(-4.35,-0.45) AH11(-3.75,-0.45) AH14(-2.85,-0.45) AH17(-1.95,-0.45) AH20(-1.05,-0.45) AH23(-0.15,-0.45) AH26(0.75,-0.45) AH29(1.65,-0.45) AH32(2.55,-0.45) AH36(3.75,-0.45) AH38(4.35,-0.45) AH40(4.95,-0.45) AH44(6.15,-0.45) AK1(-6.75,-1.05) AK3(-6.15,-1.05) AK5(-5.55,-1.05) AK13(-3.15,-1.05) AK15(-2.55,-1.05) AK17(-1.95,-1.05) AK19(-1.35,-1.05) AK21(-0.75,-1.05) AK23(-0.15,-1.05) AK25(0.45,-1.05) AK27(1.05,-1.05) AK29(1.65,-1.05) AK31(2.25,-1.05) AK33(2.85,-1.05) AK42(5.55,-1.05) AK44(6.15,-1.05) AK46(6.75,-1.05) AL7(-4.95,-1.35) AL9(-4.35,-1.35) AL11(-3.75,-1.35) AL36(3.75,-1.35) AL38(4.35,-1.35) AL40(4.95,-1.35) AM3(-6.15,-1.65) AM5(-5.55,-1.65) AM27(1.05,-1.65) AM42(5.55,-1.65) AM44(6.15,-1.65) AN14(-2.85,-1.95) AN16(-2.25,-1.95) AN18(-1.65,-1.95) AN20(-1.05,-1.95) AN22(-0.45,-1.95) AN24(0.15,-1.95) AN30(1.95,-1.95) AN32(2.55,-1.95) AN34(3.15,-1.95) AP1(-6.75,-2.25) AP3(-6.15,-2.25) AP5(-5.55,-2.25) AP7(-4.95,-2.25) AP9(-4.35,-2.25) AP11(-3.75,-2.25) AP27(1.05,-2.25) AP36(3.75,-2.25) AP38(4.35,-2.25) AP40(4.95,-2.25) AP42(5.55,-2.25) AP44(6.15,-2.25) AP46(6.75,-2.25) AT3(-6.15,-2.85) AT5(-5.55,-2.85) AT13(-3.15,-2.85) AT15(-2.55,-2.85) AT17(-1.95,-2.85) AT19(-1.35,-2.85) AT21(-0.75,-2.85) AT23(-0.15,-2.85) AT25(0.45,-2.85) AT27(1.05,-2.85) AT33(2.85,-2.85) AT42(5.55,-2.85) AT44(6.15,-2.85) AU9(-4.35,-3.15) AU11(-3.75,-3.15) AU29(1.65,-3.15) AU31(2.25,-3.15) AU36(3.75,-3.15) AU38(4.35,-3.15) AU40(4.95,-3.15) AV1(-6.75,-3.45) AV3(-6.15,-3.45) AV5(-5.55,-3.45) AV42(5.55,-3.45) AV44(6.15,-3.45) AV46(6.75,-3.45) AW14(-2.85,-3.75) AW16(-2.25,-3.75) AW18(-1.65,-3.75) AW20(-1.05,-3.75) AW22(-0.45,-3.75) AW24(0.15,-3.75) AW26(0.75,-3.75) AW28(1.35,-3.75) AW30(1.95,-3.75) AW32(2.55,-3.75) AW34(3.15,-3.75) AY3(-6.15,-4.05) AY5(-5.55,-4.05) AY7(-4.95,-4.05) AY9(-4.35,-4.05) AY11(-3.75,-4.05) AY36(3.75,-4.05) AY38(4.35,-4.05) AY40(4.95,-4.05) AY42(5.55,-4.05) AY44(6.15,-4.05) BB1(-6.75,-4.65) BB3(-6.15,-4.65) BB5(-5.55,-4.65) BB10(-4.05,-4.65) BB13(-3.15,-4.65) BB16(-2.25,-4.65) BB19(-1.35,-4.65) BB22(-0.45,-4.65) BB25(0.45,-4.65) BB28(1.35,-4.65) BB31(2.25,-4.65) BB34(3.15,-4.65) BB42(5.55,-4.65) BB44(6.15,-4.65) BB46(6.75,-4.65) BC7(-4.95,-4.95) BC36(3.75,-4.95) BC38(4.35,-4.95) BC40(4.95,-4.95) BD3(-6.15,-5.25) BD5(-5.55,-5.25) BD10(-4.05,-5.25) BD13(-3.15,-5.25) BD16(-2.25,-5.25) BD19(-1.35,-5.25) BD22(-0.45,-5.25) BD25(0.45,-5.25) BD28(1.35,-5.25) BD31(2.25,-5.25) BD34(3.15,-5.25) BD42(5.55,-5.25) BD44(6.15,-5.25) BF1(-6.75,-5.85) BF3(-6.15,-5.85) BF5(-5.55,-5.85) BF7(-4.95,-5.85) BF10(-4.05,-5.85) BF13(-3.15,-5.85) BF16(-2.25,-5.85) BF19(-1.35,-5.85) BF22(-0.45,-5.85) BF25(0.45,-5.85) BF28(1.35,-5.85) BF31(2.25,-5.85) BF34(3.15,-5.85) BF36(3.75,-5.85) BF39(4.65,-5.85) BF42(5.55,-5.85) BF44(6.15,-5.85) BF46(6.75,-5.85) BH1(-6.75,-6.45) BH3(-6.15,-6.45) BH5(-5.55,-6.45) BH7(-4.95,-6.45) BH9(-4.35,-6.45) BH11(-3.75,-6.45) BH13(-3.15,-6.45) BH17(-1.95,-6.45) BH19(-1.35,-6.45) BH21(-0.75,-6.45) BH24(0.15,-6.45) BH26(0.75,-6.45) BH28(1.35,-6.45) BH30(1.95,-6.45) BH32(2.55,-6.45) BH34(3.15,-6.45) BH36(3.75,-6.45) BH38(4.35,-6.45) BH40(4.95,-6.45) BH42(5.55,-6.45) BH44(6.15,-6.45) BH46(6.75,-6.45) BK1(-6.75,-7.05) BK3(-6.15,-7.05) BK5(-5.55,-7.05) BK7(-4.95,-7.05) BK9(-4.35,-7.05) BK11(-3.75,-7.05) BK13(-3.15,-7.05) BK15(-2.55,-7.05) BK17(-1.95,-7.05) BK19(-1.35,-7.05) BK21(-0.75,-7.05) BK24(0.15,-7.05) BK26(0.75,-7.05) BK28(1.35,-7.05) BK30(1.95,-7.05) BK32(2.55,-7.05) BK34(3.15,-7.05) BK38(4.35,-7.05) BK40(4.95,-7.05) BK42(5.55,-7.05) BK44(6.15,-7.05) BK46(6.75,-7.05) BM1(-6.75,-7.65) BM3(-6.15,-7.65) BM5(-5.55,-7.65) BM7(-4.95,-7.65) BM11(-3.75,-7.65) BM15(-2.55,-7.65) BM19(-1.35,-7.65) BM24(0.15,-7.65) BM28(1.35,-7.65) BM32(2.55,-7.65) BM36(3.75,-7.65) BM40(4.95,-7.65) BM42(5.55,-7.65) BM44(6.15,-7.65) BM46(6.75,-7.65) C1(-6.75,7.05) C3(-6.15,7.05) C5(-5.55,7.05) C7(-4.95,7.05) C9(-4.35,7.05) C11(-3.75,7.05) C13(-3.15,7.05) C15(-2.55,7.05) C17(-1.95,7.05) C19(-1.35,7.05) C21(-0.75,7.05) C24(0.15,7.05) C26(0.75,7.05) C28(1.35,7.05) C30(1.95,7.05) C32(2.55,7.05) C34(3.15,7.05) C36(3.75,7.05) C38(4.35,7.05) C40(4.95,7.05) C42(5.55,7.05) C44(6.15,7.05) C46(6.75,7.05) E3(-6.15,6.45) E5(-5.55,6.45) E7(-4.95,6.45) E9(-4.35,6.45) E13(-3.15,6.45) E15(-2.55,6.45) E17(-1.95,6.45) E19(-1.35,6.45) E21(-0.75,6.45) E24(0.15,6.45) E26(0.75,6.45) E28(1.35,6.45) E30(1.95,6.45) E32(2.55,6.45) E34(3.15,6.45) E36(3.75,6.45) E38(4.35,6.45) E40(4.95,6.45) E42(5.55,6.45) E44(6.15,6.45) E46(6.75,6.45) G1(-6.75,5.85) G3(-6.15,5.85) G5(-5.55,5.85) G8(-4.65,5.85) G11(-3.75,5.85) G13(-3.15,5.85) G16(-2.25,5.85) G19(-1.35,5.85) G22(-0.45,5.85) G25(0.45,5.85) G28(1.35,5.85) G31(2.25,5.85) G34(3.15,5.85) G37(4.05,5.85) G42(5.55,5.85) G44(6.15,5.85) G46(6.75,5.85) H40(4.95,5.55) J3(-6.15,5.25) J5(-5.55,5.25) J13(-3.15,5.25) J16(-2.25,5.25) J19(-1.35,5.25) J22(-0.45,5.25) J25(0.45,5.25) J28(1.35,5.25) J31(2.25,5.25) J34(3.15,5.25) J37(4.05,5.25) J42(5.55,5.25) J44(6.15,5.25) J46(6.75,5.25) K7(-4.95,4.95) K9(-4.35,4.95) K11(-3.75,4.95) L1(-6.75,4.65) L3(-6.15,4.65) L5(-5.55,4.65) L13(-3.15,4.65) L16(-2.25,4.65) L19(-1.35,4.65) L22(-0.45,4.65) L25(0.45,4.65) L28(1.35,4.65) L31(2.25,4.65) L34(3.15,4.65) L37(4.05,4.65) L40(4.95,4.65) L42(5.55,4.65) L44(6.15,4.65) N3(-6.15,4.05) N5(-5.55,4.05) N7(-4.95,4.05) N9(-4.35,4.05) N11(-3.75,4.05) N15(-2.55,4.05) N36(3.75,4.05) N38(4.35,4.05) N40(4.95,4.05) N42(5.55,4.05) N44(6.15,4.05) P13(-3.15,3.75) P18(-1.65,3.75) P20(-1.05,3.75) P22(-0.45,3.75) P24(0.15,3.75) P26(0.75,3.75) P28(1.35,3.75) P30(1.95,3.75) P32(2.55,3.75) P34(3.15,3.75) R1(-6.75,3.45) R3(-6.15,3.45) R5(-5.55,3.45) R15(-2.55,3.45) R42(5.55,3.45) R44(6.15,3.45) R46(6.75,3.45) T7(-4.95,3.15) T9(-4.35,3.15) T11(-3.75,3.15) T36(3.75,3.15) T38(4.35,3.15) T40(4.95,3.15) U3(-6.15,2.85) U5(-5.55,2.85) U13(-3.15,2.85) U15(-2.55,2.85) U17(-1.95,2.85) U19(-1.35,2.85) U21(-0.75,2.85) U23(-0.15,2.85) U25(0.45,2.85) U27(1.05,2.85) U29(1.65,2.85) U31(2.25,2.85) U33(2.85,2.85) U42(5.55,2.85) U44(6.15,2.85) W1(-6.75,2.25) W3(-6.15,2.25) W5(-5.55,2.25) W7(-4.95,2.25) W9(-4.35,2.25) W11(-3.75,2.25) W36(3.75,2.25) W38(4.35,2.25) W40(4.95,2.25) W42(5.55,2.25) W44(6.15,2.25) W46(6.75,2.25) Y14(-2.85,1.95) Y16(-2.25,1.95) Y18(-1.65,1.95) Y20(-1.05,1.95) Y22(-0.45,1.95) Y24(0.15,1.95) Y26(0.75,1.95) Y28(1.35,1.95) Y30(1.95,1.95) Y32(2.55,1.95) Y34(3.15,1.95)
TopOverlay:
  circle w0.2: c-7.575,7.9 r0.1
  region: -4.6,7.8 -4.6,7.3 -4.1,7.8
  lines w0.2: -7.15,-8.05 7.15,-8.05 7.15,8.05 -7.15,8.05 -7.15,-8.05
3D body: height 1.1, standoff 0.2, extent -7.15,-8.05 7.15,8.05

## BGA65_81_S7 [mm] "BGA, 81-Leads, Body 7.00x7.00mmx1.10mm, Pitch 0.65mm"
height 1.1
pads (81):
  round 0.3 smd mask+0.05: A1(-2.6,2.6) A2(-1.95,2.6) A3(-1.3,2.6) A4(-0.65,2.6) A5(0,2.6) A6(0.65,2.6) A7(1.3,2.6) A8(1.95,2.6) A9(2.6,2.6) B1(-2.6,1.95) B2(-1.95,1.95) B3(-1.3,1.95) B4(-0.65,1.95) B5(0,1.95) B6(0.65,1.95) B7(1.3,1.95) B8(1.95,1.95) B9(2.6,1.95) C1(-2.6,1.3) C2(-1.95,1.3) C3(-1.3,1.3) C4(-0.65,1.3) C5(0,1.3) C6(0.65,1.3) C7(1.3,1.3) C8(1.95,1.3) C9(2.6,1.3) D1(-2.6,0.65) D2(-1.95,0.65) D3(-1.3,0.65) D4(-0.65,0.65) D5(0,0.65) D6(0.65,0.65) D7(1.3,0.65) D8(1.95,0.65) D9(2.6,0.65) E1(-2.6,0) E2(-1.95,0) E3(-1.3,0) E4(-0.65,0) E5(0,0) E6(0.65,0) E7(1.3,0) E8(1.95,0) E9(2.6,0) F1(-2.6,-0.65) F2(-1.95,-0.65) F3(-1.3,-0.65) F4(-0.65,-0.65) F5(0,-0.65) F6(0.65,-0.65) F7(1.3,-0.65) F8(1.95,-0.65) F9(2.6,-0.65) G1(-2.6,-1.3) G2(-1.95,-1.3) G3(-1.3,-1.3) G4(-0.65,-1.3) G5(0,-1.3) G6(0.65,-1.3) G7(1.3,-1.3) G8(1.95,-1.3) G9(2.6,-1.3) H1(-2.6,-1.95) H2(-1.95,-1.95) H3(-1.3,-1.95) H4(-0.65,-1.95) H5(0,-1.95) H6(0.65,-1.95) H7(1.3,-1.95) H8(1.95,-1.95) H9(2.6,-1.95) J1(-2.6,-2.6) J2(-1.95,-2.6) J3(-1.3,-2.6) J4(-0.65,-2.6) J5(0,-2.6) J6(0.65,-2.6) J7(1.3,-2.6) J8(1.95,-2.6) J9(2.6,-2.6)
TopOverlay:
  circle w0.25: c-4.15,3.35 r0.125
  region: -2.5,3.5 -3.5,2.5 -3.5,3.5
  lines w0.2: -3.5,2.5 -2.5,3.5 ; -3.5,-3.5 3.5,-3.5 3.5,3.5 -3.5,3.5 -3.5,-3.5
Mechanical13:
  lines w0.1: -3.5,-3.5 3.5,-3.5 3.5,3.5 -3.5,3.5 -3.5,-3.5
3D body "BGA65_81_S7.step": height 1.1, standoff 0, extent -3.5,-3.5 3.5,3.5

## BGA65_161_S10_ABL [mm] "BGA, 161-Balls, ABL0161B, Body 10.4x10.4mm, Pitch 0.65mm"
height 1.17
pads (161):
  round 0.35 smd mask+0.05: A1(-4.55,4.55) A2(-3.9,4.55) A3(-3.25,4.55) A5(-1.95,4.55) A7(-0.65,4.55) A9(0.65,4.55) A10(1.3,4.55) A13(3.25,4.55) A14(3.9,4.55) A15(4.55,4.55) B1(-4.55,3.9) B2(-3.9,3.9) B3(-3.25,3.9) B4(-2.6,3.9) B5(-1.95,3.9) B6(-1.3,3.9) B7(-0.65,3.9) B8(0,3.9) B9(0.65,3.9) B10(1.3,3.9) B11(1.95,3.9) B12(2.6,3.9) B13(3.25,3.9) B14(3.9,3.9) B15(4.55,3.9) C1(-4.55,3.25) C2(-3.9,3.25) C3(-3.25,3.25) C4(-2.6,3.25) C5(-1.95,3.25) C6(-1.3,3.25) C7(-0.65,3.25) C8(0,3.25) C9(0.65,3.25) C13(3.25,3.25) C14(3.9,3.25) C15(4.55,3.25) D2(-3.9,2.6) D13(3.25,2.6) D14(3.9,2.6) D15(4.55,2.6) E1(-4.55,1.95) E2(-3.9,1.95) E3(-3.25,1.95) E5(-1.95,1.95) E6(-1.3,1.95) E8(0,1.95) E10(1.3,1.95) E11(1.95,1.95) E13(3.25,1.95) E14(3.9,1.95) E15(4.55,1.95) F2(-3.9,1.3) F3(-3.25,1.3) F5(-1.95,1.3) F9(0.65,1.3) F11(1.95,1.3) F13(3.25,1.3) F14(3.9,1.3) F15(4.55,1.3) G1(-4.55,0.65) G2(-3.9,0.65) G3(-3.25,0.65) G5(-1.95,0.65) G6(-1.3,0.65) G7(-0.65,0.65) G8(0,0.65) G10(1.3,0.65) G13(3.25,0.65) G14(3.9,0.65) G15(4.55,0.65) H2(-3.9,0) H3(-3.25,0) H5(-1.95,0) H7(-0.65,0) H9(0.65,0) H11(1.95,0) H13(3.25,0) H14(3.9,0) H15(4.55,0) J1(-4.55,-0.65) J2(-3.9,-0.65) J3(-3.25,-0.65) J5(-1.95,-0.65) J6(-1.3,-0.65) J7(-0.65,-0.65) J8(0,-0.65) J10(1.3,-0.65) J13(3.25,-0.65) J14(3.9,-0.65) J15(4.55,-0.65) K2(-3.9,-1.3) K3(-3.25,-1.3) K5(-1.95,-1.3) K7(-0.65,-1.3) K8(0,-1.3) K9(0.65,-1.3) K10(1.3,-1.3) K11(1.95,-1.3) K13(3.25,-1.3) K14(3.9,-1.3) K15(4.55,-1.3) L1(-4.55,-1.95) L2(-3.9,-1.95) L3(-3.25,-1.95) L5(-1.95,-1.95) L6(-1.3,-1.95) L8(0,-1.95) L10(1.3,-1.95) L13(3.25,-1.95) L14(3.9,-1.95) L15(4.55,-1.95) M2(-3.9,-2.6) M3(-3.25,-2.6) M14(3.9,-2.6) M15(4.55,-2.6) N1(-4.55,-3.25) N2(-3.9,-3.25) N3(-3.25,-3.25) N4(-2.6,-3.25) N5(-1.95,-3.25) N6(-1.3,-3.25) N7(-0.65,-3.25) N8(0,-3.25) N9(0.65,-3.25) N10(1.3,-3.25) N11(1.95,-3.25) N12(2.6,-3.25) N13(3.25,-3.25) N14(3.9,-3.25) N15(4.55,-3.25) P1(-4.55,-3.9) P2(-3.9,-3.9) P3(-3.25,-3.9) P4(-2.6,-3.9) P5(-1.95,-3.9) P6(-1.3,-3.9) P7(-0.65,-3.9) P8(0,-3.9) P9(0.65,-3.9) P10(1.3,-3.9) P11(1.95,-3.9) P12(2.6,-3.9) P13(3.25,-3.9) P14(3.9,-3.9) P15(4.55,-3.9) R1(-4.55,-4.55) R2(-3.9,-4.55) R3(-3.25,-4.55) R4(-2.6,-4.55) R5(-1.95,-4.55) R6(-1.3,-4.55) R7(-0.65,-4.55) R8(0,-4.55) R9(0.65,-4.55) R10(1.3,-4.55) R11(1.95,-4.55) R12(2.6,-4.55) R13(3.25,-4.55) R14(3.9,-4.55) R15(4.55,-4.55)
TopOverlay:
  lines w0.2: -5.3,-4.3 -5.3,-5.3 -4.3,-5.3 ; -5.3,3.3 -5.3,5.3 -3.3,5.3 ; 4.3,-5.3 5.3,-5.3 5.3,-4.3 ; 4.3,5.3 5.3,5.3 5.3,4.3
Mechanical13:
  circle w0.1: c-4.55,4.55 r0.2
  lines w0.1: -5.2,-5.2 5.2,-5.2 5.2,5.2 -5.2,5.2 -5.2,-5.2
3D body "ABL0161B.stp": height 0.62, standoff 0, extent -5.2,-5.2 5.2,5.2

## BGA65_178_11X11 [mm] "BGA-178, pitch: 0.65mm, 17X13, 11.50x11x1mm"
height 1
pads (178):
  round 0.35 smd mask+0.05: A1(-4.8,5.2) A2(-4,5.2) A3(-3.2,5.2) A4(-2.4,5.2) A5(-1.6,5.2) A6(-0.8,5.2) A8(0.8,5.2) A9(1.6,5.2) A10(2.4,5.2) A11(3.2,5.2) A12(4,5.2) A13(4.8,5.2) B1(-4.8,4.55) B2(-4,4.55) B3(-3.2,4.55) B4(-2.4,4.55) B5(-1.6,4.55) B6(-0.8,4.55) B8(0.8,4.55) B9(1.6,4.55) B10(2.4,4.55) B11(3.2,4.55) B12(4,4.55) B13(4.8,4.55) C2(-4,3.9) C3(-3.2,3.9) C4(-2.4,3.9) C5(-1.6,3.9) C6(-0.8,3.9) C8(0.8,3.9) C9(1.6,3.9) C10(2.4,3.9) C11(3.2,3.9) C12(4,3.9) D2(-4,3.25) D3(-3.2,3.25) D4(-2.4,3.25) D5(-1.6,3.25) D6(-0.8,3.25) D8(0.8,3.25) D9(1.6,3.25) D10(2.4,3.25) D11(3.2,3.25) D12(4,3.25) E2(-4,2.6) E3(-3.2,2.6) E4(-2.4,2.6) E5(-1.6,2.6) E6(-0.8,2.6) E8(0.8,2.6) E9(1.6,2.6) E10(2.4,2.6) E11(3.2,2.6) E12(4,2.6) F2(-4,1.95) F3(-3.2,1.95) F4(-2.4,1.95) F5(-1.6,1.95) F6(-0.8,1.95) F8(0.8,1.95) F9(1.6,1.95) F10(2.4,1.95) F11(3.2,1.95) F12(4,1.95) G2(-4,1.3) G3(-3.2,1.3) G4(-2.4,1.3) G5(-1.6,1.3) G6(-0.8,1.3) G8(0.8,1.3) G9(1.6,1.3) G10(2.4,1.3) G11(3.2,1.3) G12(4,1.3) H2(-4,0.65) H3(-3.2,0.65) H4(-2.4,0.65) H5(-1.6,0.65) H6(-0.8,0.65) H8(0.8,0.65) H9(1.6,0.65) H10(2.4,0.65) H11(3.2,0.65) H12(4,0.65) J2(-4,0) J3(-3.2,0) J4(-2.4,0) J5(-1.6,0) J6(-0.8,0) J8(0.8,0) J9(1.6,0) J10(2.4,0) J11(3.2,0) J12(4,0) K2(-4,-0.65) K3(-3.2,-0.65) K4(-2.4,-0.65) K5(-1.6,-0.65) K6(-0.8,-0.65) K8(0.8,-0.65) K9(1.6,-0.65) K10(2.4,-0.65) K11(3.2,-0.65) K12(4,-0.65) L2(-4,-1.3) L3(-3.2,-1.3) L4(-2.4,-1.3) L5(-1.6,-1.3) L6(-0.8,-1.3) L8(0.8,-1.3) L9(1.6,-1.3) L10(2.4,-1.3) L11(3.2,-1.3) L12(4,-1.3) M2(-4,-1.95) M3(-3.2,-1.95) M4(-2.4,-1.95) M5(-1.6,-1.95) M6(-0.8,-1.95) M8(0.8,-1.95) M9(1.6,-1.95) M10(2.4,-1.95) M11(3.2,-1.95) M12(4,-1.95) N2(-4,-2.6) N3(-3.2,-2.6) N4(-2.4,-2.6) N5(-1.6,-2.6) N6(-0.8,-2.6) N8(0.8,-2.6) N9(1.6,-2.6) N10(2.4,-2.6) N11(3.2,-2.6) N12(4,-2.6) P2(-4,-3.25) P3(-3.2,-3.25) P4(-2.4,-3.25) P5(-1.6,-3.25) P6(-0.8,-3.25) P8(0.8,-3.25) P9(1.6,-3.25) P10(2.4,-3.25) P11(3.2,-3.25) P12(4,-3.25) R2(-4,-3.9) R3(-3.2,-3.9) R4(-2.4,-3.9) R5(-1.6,-3.9) R6(-0.8,-3.9) R8(0.8,-3.9) R9(1.6,-3.9) R10(2.4,-3.9) R11(3.2,-3.9) R12(4,-3.9) T1(-4.8,-4.55) T2(-4,-4.55) T3(-3.2,-4.55) T4(-2.4,-4.55) T5(-1.6,-4.55) T6(-0.8,-4.55) T8(0.8,-4.55) T9(1.6,-4.55) T10(2.4,-4.55) T11(3.2,-4.55) T12(4,-4.55) T13(4.8,-4.55) U1(-4.8,-5.2) U2(-4,-5.2) U3(-3.2,-5.2) U4(-2.4,-5.2) U5(-1.6,-5.2) U6(-0.8,-5.2) U8(0.8,-5.2) U9(1.6,-5.2) U10(2.4,-5.2) U11(3.2,-5.2) U12(4,-5.2) U13(4.8,-5.2)
TopOverlay:
  circle w0.2: c-6.05,5.2 r0.1
  region: -5.6,5.9 -4.6,5.9 -5.6,4.9
  lines w0.2: -5.6,-5.9 -5.6,5.9 5.6,5.9 5.6,-5.9 -5.6,-5.9
Mechanical13:
  lines w0.127: -5.5,-5.75 5.5,-5.75 5.5,5.75 -5.5,5.75 -5.5,-5.75
3D body: height 1, standoff 0, extent -5.5,-5.75 5.5,5.75

## BGA65_196_S10 [mm] "NFBGA, 196-Ball, pitch:0.65mm, 10x10mm"
pads (196):
  round 0.35 smd mask+0.075: A1(-4.227,-4.227) A2(-4.227,-3.576) A3(-4.227,-2.926) A4(-4.227,-2.276) A5(-4.227,-1.626) A6(-4.227,-0.975) A7(-4.227,-0.325) A8(-4.227,0.325) A9(-4.227,0.975) A10(-4.227,1.626) A11(-4.227,2.276) A12(-4.227,2.926) A13(-4.227,3.576) A14(-4.227,4.227) B1(-3.576,-4.227) B2(-3.576,-3.576) B3(-3.576,-2.926) B4(-3.576,-2.276) B5(-3.576,-1.626) B6(-3.576,-0.975) B7(-3.576,-0.325) B8(-3.576,0.325) B9(-3.576,0.975) B10(-3.576,1.626) B11(-3.576,2.276) B12(-3.576,2.926) B13(-3.576,3.576) B14(-3.576,4.227) C1(-2.926,-4.227) C2(-2.926,-3.576) C3(-2.926,-2.926) C4(-2.926,-2.276) C5(-2.926,-1.626) C6(-2.926,-0.975) C7(-2.926,-0.325) C8(-2.926,0.325) C9(-2.926,0.975) C10(-2.926,1.626) C11(-2.926,2.276) C12(-2.926,2.926) C13(-2.926,3.576) C14(-2.926,4.227) D1(-2.276,-4.227) D2(-2.276,-3.576) D3(-2.276,-2.926) D4(-2.276,-2.276) D5(-2.276,-1.626) D6(-2.276,-0.975) D7(-2.276,-0.325) D8(-2.276,0.325) D9(-2.276,0.975) D10(-2.276,1.626) D11(-2.276,2.276) D12(-2.276,2.926) D13(-2.276,3.576) D14(-2.276,4.227) E1(-1.626,-4.227) E2(-1.626,-3.576) E3(-1.626,-2.926) E4(-1.626,-2.276) E5(-1.626,-1.626) E6(-1.626,-0.975) E7(-1.626,-0.325) E8(-1.626,0.325) E9(-1.626,0.975) E10(-1.626,1.626) E11(-1.626,2.276) E12(-1.626,2.926) E13(-1.626,3.576) E14(-1.626,4.227) F1(-0.975,-4.227) F2(-0.975,-3.576) F3(-0.975,-2.926) F4(-0.975,-2.276) F5(-0.975,-1.626) F6(-0.975,-0.975) F7(-0.975,-0.325) F8(-0.975,0.325) F9(-0.975,0.975) F10(-0.975,1.626) F11(-0.975,2.276) F12(-0.975,2.926) F13(-0.975,3.576) F14(-0.975,4.227) G1(-0.325,-4.227) G2(-0.325,-3.576) G3(-0.325,-2.926) G4(-0.325,-2.276) G5(-0.325,-1.626) G6(-0.325,-0.975) G7(-0.325,-0.325) G8(-0.325,0.325) G9(-0.325,0.975) G10(-0.325,1.626) G11(-0.325,2.276) G12(-0.325,2.926) G13(-0.325,3.576) G14(-0.325,4.227) H1(0.325,-4.227) H2(0.325,-3.576) H3(0.325,-2.926) H4(0.325,-2.276) H5(0.325,-1.626) H6(0.325,-0.975) H7(0.325,-0.325) H8(0.325,0.325) H9(0.325,0.975) H10(0.325,1.626) H11(0.325,2.276) H12(0.325,2.926) H13(0.325,3.576) H14(0.325,4.227) J1(0.975,-4.227) J2(0.975,-3.576) J3(0.975,-2.926) J4(0.975,-2.276) J5(0.975,-1.626) J6(0.975,-0.975) J7(0.975,-0.325) J8(0.975,0.325) J9(0.975,0.975) J10(0.975,1.626) J11(0.975,2.276) J12(0.975,2.926) J13(0.975,3.576) J14(0.975,4.227) K1(1.626,-4.227) K2(1.626,-3.576) K3(1.626,-2.926) K4(1.626,-2.276) K5(1.626,-1.626) K6(1.626,-0.975) K7(1.626,-0.325) K8(1.626,0.325) K9(1.626,0.975) K10(1.626,1.626) K11(1.626,2.276) K12(1.626,2.926) K13(1.626,3.576) K14(1.626,4.227) L1(2.276,-4.227) L2(2.276,-3.576) L3(2.276,-2.926) L4(2.276,-2.276) L5(2.276,-1.626) L6(2.276,-0.975) L7(2.276,-0.325) L8(2.276,0.325) L9(2.276,0.975) L10(2.276,1.626) L11(2.276,2.276) L12(2.276,2.926) L13(2.276,3.576) L14(2.276,4.227) M1(2.926,-4.227) M2(2.926,-3.576) M3(2.926,-2.926) M4(2.926,-2.276) M5(2.926,-1.626) M6(2.926,-0.975) M7(2.926,-0.325) M8(2.926,0.325) M9(2.926,0.975) M10(2.926,1.626) M11(2.926,2.276) M12(2.926,2.926) M13(2.926,3.576) M14(2.926,4.227) N1(3.576,-4.227) N2(3.576,-3.576) N3(3.576,-2.926) N4(3.576,-2.276) N5(3.576,-1.626) N6(3.576,-0.975) N7(3.576,-0.325) N8(3.576,0.325) N9(3.576,0.975) N10(3.576,1.626) N11(3.576,2.276) N12(3.576,2.926) N13(3.576,3.576) N14(3.576,4.227) P1(4.227,-4.227) P2(4.227,-3.576) P3(4.227,-2.926) P4(4.227,-2.276) P5(4.227,-1.626) P6(4.227,-0.975) P7(4.227,-0.325) P8(4.227,0.325) P9(4.227,0.975) P10(4.227,1.626) P11(4.227,2.276) P12(4.227,2.926) P13(4.227,3.576) P14(4.227,4.227)
TopOverlay:
  circle w0.2: c-5.61,4.8 r0.2
  region: -4,5.1 -5.11,3.99 -5.11,5.1
  lines w0.2: -5.11,-5.1 -5.11,5.1 5.1,5.1 5.1,-5.1 -5.11,-5.1
3D body: height 1.3, standoff 0.1, extent -5,-5 5,5

## BGA65_200_11x14 [mm] "200-Ball FBGA, 0.65mm pitch, 11x14.5x1.0 mm"
height 1
pads (200):
  round 0.25 smd mask+0.05: A1(-4.4,6.825) A2(-3.6,6.825) A3(-2.8,6.825) A4(-2,6.825) A5(-1.2,6.825) A8(1.2,6.825) A9(2,6.825) A10(2.8,6.825) A11(3.6,6.825) A12(4.4,6.825) AA1(-4.4,-6.175) AA2(-3.6,-6.175) AA3(-2.8,-6.175) AA4(-2,-6.175) AA5(-1.2,-6.175) AA8(1.2,-6.175) AA9(2,-6.175) AA10(2.8,-6.175) AA11(3.6,-6.175) AA12(4.4,-6.175) AB1(-4.4,-6.825) AB2(-3.6,-6.825) AB3(-2.8,-6.825) AB4(-2,-6.825) AB5(-1.2,-6.825) AB8(1.2,-6.825) AB9(2,-6.825) AB10(2.8,-6.825) AB11(3.6,-6.825) AB12(4.4,-6.825) B1(-4.4,6.175) B2(-3.6,6.175) B3(-2.8,6.175) B4(-2,6.175) B5(-1.2,6.175) B8(1.2,6.175) B9(2,6.175) B10(2.8,6.175) B11(3.6,6.175) B12(4.4,6.175) C1(-4.4,5.525) C2(-3.6,5.525) C3(-2.8,5.525) C4(-2,5.525) C5(-1.2,5.525) C8(1.2,5.525) C9(2,5.525) C10(2.8,5.525) C11(3.6,5.525) C12(4.4,5.525) D1(-4.4,4.875) D2(-3.6,4.875) D3(-2.8,4.875) D4(-2,4.875) D5(-1.2,4.875) D8(1.2,4.875) D9(2,4.875) D10(2.8,4.875) D11(3.6,4.875) D12(4.4,4.875) E1(-4.4,4.225) E2(-3.6,4.225) E3(-2.8,4.225) E4(-2,4.225) E5(-1.2,4.225) E8(1.2,4.225) E9(2,4.225) E10(2.8,4.225) E11(3.6,4.225) E12(4.4,4.225) F1(-4.4,3.575) F2(-3.6,3.575) F3(-2.8,3.575) F4(-2,3.575) F5(-1.2,3.575) F8(1.2,3.575) F9(2,3.575) F10(2.8,3.575) F11(3.6,3.575) F12(4.4,3.575) G1(-4.4,2.925) G2(-3.6,2.925) G3(-2.8,2.925) G4(-2,2.925) G5(-1.2,2.925) G8(1.2,2.925) G9(2,2.925) G10(2.8,2.925) G11(3.6,2.925) G12(4.4,2.925) H1(-4.4,2.275) H2(-3.6,2.275) H3(-2.8,2.275) H4(-2,2.275) H5(-1.2,2.275) H8(1.2,2.275) H9(2,2.275) H10(2.8,2.275) H11(3.6,2.275) H12(4.4,2.275) J1(-4.4,1.625) J2(-3.6,1.625) J3(-2.8,1.625) J4(-2,1.625) J5(-1.2,1.625) J8(1.2,1.625) J9(2,1.625) J10(2.8,1.625) J11(3.6,1.625) J12(4.4,1.625) K1(-4.4,0.975) K2(-3.6,0.975) K3(-2.8,0.975) K4(-2,0.975) K5(-1.2,0.975) K8(1.2,0.975) K9(2,0.975) K10(2.8,0.975) K11(3.6,0.975) K12(4.4,0.975) N1(-4.4,-0.975) N2(-3.6,-0.975) N3(-2.8,-0.975) N4(-2,-0.975) N5(-1.2,-0.975) N8(1.2,-0.975) N9(2,-0.975) N10(2.8,-0.975) N11(3.6,-0.975) N12(4.4,-0.975) P1(-4.4,-1.625) P2(-3.6,-1.625) P3(-2.8,-1.625) P4(-2,-1.625) P5(-1.2,-1.625) P8(1.2,-1.625) P9(2,-1.625) P10(2.8,-1.625) P11(3.6,-1.625) P12(4.4,-1.625) R1(-4.4,-2.275) R2(-3.6,-2.275) R3(-2.8,-2.275) R4(-2,-2.275) R5(-1.2,-2.275) R8(1.2,-2.275) R9(2,-2.275) R10(2.8,-2.275) R11(3.6,-2.275) R12(4.4,-2.275) T1(-4.4,-2.925) T2(-3.6,-2.925) T3(-2.8,-2.925) T4(-2,-2.925) T5(-1.2,-2.925) T8(1.2,-2.925) T9(2,-2.925) T10(2.8,-2.925) T11(3.6,-2.925) T12(4.4,-2.925) U1(-4.4,-3.575) U2(-3.6,-3.575) U3(-2.8,-3.575) U4(-2,-3.575) U5(-1.2,-3.575) U8(1.2,-3.575) U9(2,-3.575) U10(2.8,-3.575) U11(3.6,-3.575) U12(4.4,-3.575) V1(-4.4,-4.225) V2(-3.6,-4.225) V3(-2.8,-4.225) V4(-2,-4.225) V5(-1.2,-4.225) V8(1.2,-4.225) V9(2,-4.225) V10(2.8,-4.225) V11(3.6,-4.225) V12(4.4,-4.225) W1(-4.4,-4.875) W2(-3.6,-4.875) W3(-2.8,-4.875) W4(-2,-4.875) W5(-1.2,-4.875) W8(1.2,-4.875) W9(2,-4.875) W10(2.8,-4.875) W11(3.6,-4.875) W12(4.4,-4.875) Y1(-4.4,-5.525) Y2(-3.6,-5.525) Y3(-2.8,-5.525) Y4(-2,-5.525) Y5(-1.2,-5.525) Y8(1.2,-5.525) Y9(2,-5.525) Y10(2.8,-5.525) Y11(3.6,-5.525) Y12(4.4,-5.525)
TopOverlay:
  circle w0.2: c-5.5,7.1 r0.2
  region: -5.1,7.3 -5.1,6.5 -4.3,7.3
  lines w0.2: -5.1,-7.3 5.1,-7.3 5.1,7.3 -5.1,7.3 -5.1,-7.3
3D body: height 1, standoff 0.2, extent -5,-7.25 5,7.25